# Altium footprint library kd_lib.PcbLib: 7 footprints
Each footprint in its own frame and in the unit in brackets; x right, y up, seen from the top. Pads: shape width x height; smd on the part's side, far side on the other; paste and mask are expansions set on the pad; w line width, h text height; cw(c..) or ccw(c..) is an arc to the next point about the centre after c.
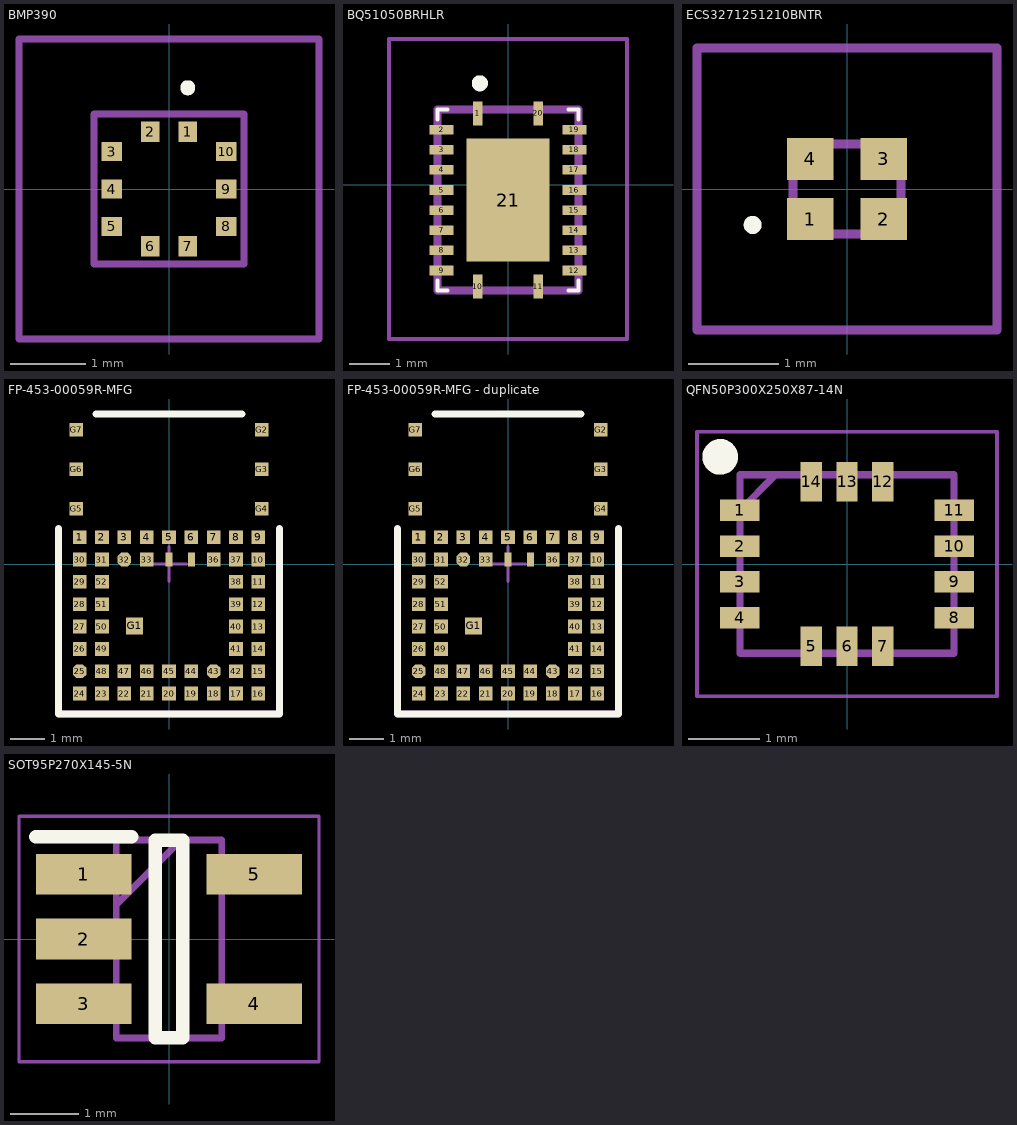
[diagram p0: the footprints below, top view; thin cyan lines are the x and y axes]

## BMP390 [mm]
pads (10):
  rect 0.25x0.275 smd: 1(0.25,0.763) 2(-0.25,0.763) 6(-0.25,-0.763) 7(0.25,-0.763)
  rect 0.275x0.25 smd: 3(-0.762,0.5) 4(-0.762,0) 5(-0.762,-0.5) 8(0.762,-0.5) 9(0.762,0) 10(0.762,0.5)
Top Overlay:
  lines w0.1: 0.25,1.3 ccw(c0.25,1.35) 0.25,1.4 ccw(c0.25,1.35) 0.25,1.3
Top 3D Body:
  lines w0.1: -1,-1 -1,1 1,1 1,-1 -1,-1
Top Courtyard:
  lines w0.1: -2,-2 -2,2 2,2 2,-2 -2,-2
3D body "BMP390.stp": height 0.73, standoff -0.02, extent -1,-1.08 1,0.92

## BQ51050BRHLR [mm]
pads (21):
  rect 0.24x0.6 smd: 1(-0.75,1.775) 10(-0.75,-2.525) 11(0.75,-2.525) 20(0.75,1.775)
  rect 0.6x0.24 smd: 2(-1.65,1.375) 3(-1.65,0.875) 4(-1.65,0.375) 5(-1.65,-0.125) 6(-1.65,-0.625) 7(-1.65,-1.125) 8(-1.65,-1.625) 9(-1.65,-2.125) 12(1.65,-2.125) 13(1.65,-1.625) 14(1.65,-1.125) 15(1.65,-0.625) 16(1.65,-0.125) 17(1.65,0.375) 18(1.65,0.875) 19(1.65,1.375)
  rect 2.05x3.05 smd: 21(0,-0.375)
Top Overlay:
  lines w0.1: -1.75,-2.375 -1.75,-2.625 -1.5,-2.625 ; -1.75,1.625 -1.75,1.875 -1.5,1.875 ; 1.5,-2.625 1.75,-2.625 1.75,-2.375 ; 1.5,1.875 1.75,1.875 1.75,1.625
  lines w0.2: -0.8,2.525 ccw(c-0.7,2.525) -0.6,2.525 ccw(c-0.7,2.525) -0.8,2.525
Top 3D Body:
  lines w0.2: -1.75,-2.625 -1.75,1.875 1.75,1.875 1.75,-2.625 -1.75,-2.625
Top Courtyard:
  lines w0.1: -2.95,-3.825 -2.95,3.625 2.95,3.625 2.95,-3.825 -2.95,-3.825
3D body "BQ51013BRHLR.stp": height 1, standoff 0, extent -1.75,-2.67 1.75,1.83

## ECS3271251210BNTR [mm]
pads (4):
  rect 0.52x0.47 smd: 1(-0.41,-0.335) 2(0.41,-0.335) 3(0.41,0.335) 4(-0.41,0.335)
Top Overlay:
  lines w0.1: -1.1,-0.4 ccw(c-1.05,-0.4) -1,-0.4 ccw(c-1.05,-0.4) -1.1,-0.4
Top 3D Body:
  lines w0.1: -0.6,-0.5 0.6,-0.5 0.6,0.5 -0.6,0.5 -0.6,-0.5
Top Courtyard:
  lines w0.1: -1.67,-1.57 1.67,-1.57 1.67,1.57 -1.67,1.57 -1.67,-1.57
3D body "ECS-.327-12.5--1210B-N-TR.stp": height 0.45, standoff 0, extent -0.623,-0.523 0.623,0.523

## FP-453-00059R-MFG [mm]
pads (59):
  rect 0.4x0.4 smd paste+0 mask+0: 1(-2.6,0.78) 2(-1.95,0.78) 3(-1.3,0.78) 4(-0.65,0.78) 5(0,0.78) 6(0.65,0.78) 7(1.3,0.78) 8(1.95,0.78) 9(2.6,0.78) 10(2.6,0.13) 11(2.6,-0.52) 12(2.6,-1.17) 13(2.6,-1.82) 14(2.6,-2.47) 15(2.6,-3.12) 16(2.6,-3.77) 17(1.95,-3.77) 18(1.3,-3.77) 19(0.65,-3.77) 20(0,-3.77) 21(-0.65,-3.77) 22(-1.3,-3.77) 23(-1.95,-3.77) 24(-2.6,-3.77) 26(-2.6,-2.47) 27(-2.6,-1.82) 28(-2.6,-1.17) 29(-2.6,-0.52) 30(-2.6,0.13) 31(-1.95,0.13) 33(-0.65,0.13) 36(1.3,0.13) 37(1.95,0.13) 38(1.95,-0.52) 39(1.95,-1.17) 40(1.95,-1.82) 41(1.95,-2.47) 42(1.95,-3.12) 44(0.65,-3.12) 45(0,-3.12) 46(-0.65,-3.12) 47(-1.3,-3.12) 48(-1.95,-3.12) 49(-1.95,-2.47) 50(-1.95,-1.82) 51(-1.95,-1.17) 52(-1.95,-0.52) G2(2.7,3.91) G3(2.7,2.76) G4(2.7,1.61) G5(-2.7,1.61) G6(-2.7,2.76) G7(-2.7,3.91)
  oct 0.4x0.4 smd paste+0 mask+0: 25(-2.6,-3.12) 32(-1.3,0.13) 43(1.3,-3.12)
  rect 0.203x0.4 smd paste+0 mask+0: 34(0,0.13) 35(0.65,0.13)
  rect 0.5x0.5 smd paste+0 mask+0: G1(-1,-1.8)
Top Overlay:
  lines w0.2: -3.215,1.035 -3.215,-4.365 3.215,-4.365 3.215,1.035 ; -2.125,4.365 2.125,4.365
Top 3D Body:
  lines w0.2: -3.215,-4.365 3.215,-4.365
Top Component Center:
  lines w0.1: -0.5,0 0.5,0 ; 0,-0.5 0,0.5

## FP-453-00059R-MFG - duplicate [mm]
pads (59):
  rect 0.4x0.4 smd paste+0 mask+0: 1(-2.6,0.78) 2(-1.95,0.78) 3(-1.3,0.78) 4(-0.65,0.78) 5(0,0.78) 6(0.65,0.78) 7(1.3,0.78) 8(1.95,0.78) 9(2.6,0.78) 10(2.6,0.13) 11(2.6,-0.52) 12(2.6,-1.17) 13(2.6,-1.82) 14(2.6,-2.47) 15(2.6,-3.12) 16(2.6,-3.77) 17(1.95,-3.77) 18(1.3,-3.77) 19(0.65,-3.77) 20(0,-3.77) 21(-0.65,-3.77) 22(-1.3,-3.77) 23(-1.95,-3.77) 24(-2.6,-3.77) 26(-2.6,-2.47) 27(-2.6,-1.82) 28(-2.6,-1.17) 29(-2.6,-0.52) 30(-2.6,0.13) 31(-1.95,0.13) 33(-0.65,0.13) 36(1.3,0.13) 37(1.95,0.13) 38(1.95,-0.52) 39(1.95,-1.17) 40(1.95,-1.82) 41(1.95,-2.47) 42(1.95,-3.12) 44(0.65,-3.12) 45(0,-3.12) 46(-0.65,-3.12) 47(-1.3,-3.12) 48(-1.95,-3.12) 49(-1.95,-2.47) 50(-1.95,-1.82) 51(-1.95,-1.17) 52(-1.95,-0.52) G2(2.7,3.91) G3(2.7,2.76) G4(2.7,1.61) G5(-2.7,1.61) G6(-2.7,2.76) G7(-2.7,3.91)
  oct 0.4x0.4 smd paste+0 mask+0: 25(-2.6,-3.12) 32(-1.3,0.13) 43(1.3,-3.12)
  rect 0.203x0.4 smd paste+0 mask+0: 34(0,0.13) 35(0.65,0.13)
  rect 0.5x0.5 smd paste+0 mask+0: G1(-1,-1.8)
Top Overlay:
  lines w0.2: -3.215,1.035 -3.215,-4.365 3.215,-4.365 3.215,1.035 ; -2.125,4.365 2.125,4.365
Top 3D Body:
  lines w0.2: -3.215,-4.365 3.215,-4.365
Top Component Center:
  lines w0.1: -0.5,0 0.5,0 ; 0,-0.5 0,0.5
3D body "UNK_Laird_453-00059R_eec.STEP": height 1.75, standoff 0, extent -3.15,-4.3 3.15,4.3

## QFN50P300X250X87-14N [mm]
pads (14):
  rect 0.55x0.3 smd: 1(-1.5,0.75) 2(-1.5,0.25) 3(-1.5,-0.25) 4(-1.5,-0.75) 8(1.5,-0.75) 9(1.5,-0.25) 10(1.5,0.25) 11(1.5,0.75)
  rect 0.3x0.55 smd: 5(-0.5,-1.15) 6(0,-1.15) 7(0.5,-1.15) 12(0.5,1.15) 13(0,1.15) 14(-0.5,1.15)
Top Overlay:
  circle w0.25: c-1.775,1.5 r0.125
Top 3D Body:
  lines w0.1: -1.5,0.75 -1,1.25 ; -1.5,-1.25 1.5,-1.25 1.5,1.25 -1.5,1.25 -1.5,-1.25
Top Courtyard:
  lines w0.05: -2.1,-1.85 2.1,-1.85 2.1,1.85 -2.1,1.85 -2.1,-1.85
3D body "BMI270.stp": height 0.87, standoff 0, extent -1.55,-1.3 1.55,1.3

## SOT95P270X145-5N [mm]
pads (5):
  rect 1.4x0.6 smd: 1(-1.25,0.95) 2(-1.25,0) 3(-1.25,-0.95) 4(1.25,-0.95) 5(1.25,0.95)
Top Overlay:
  lines w0.2: -1.95,1.5 -0.55,1.5 ; -0.2,-1.45 -0.2,1.45 0.2,1.45 0.2,-1.45 -0.2,-1.45
Top 3D Body:
  lines w0.1: -0.775,0.5 0.175,1.45 ; -0.775,-1.45 -0.775,1.45 0.775,1.45 0.775,-1.45 -0.775,-1.45
Top Courtyard:
  lines w0.05: -2.2,-1.8 -2.2,1.8 2.2,1.8 2.2,-1.8 -2.2,-1.8
3D body "MCP73831T-2ACI_OT.stp": height 1.45, standoff 0, extent -1.35,-1.45 1.35,1.45